# Altium schematic symbol library Connector-RJ.SchLib: 40 symbols
Pins are listed as number, name and electrical type; pins without a type are passive.

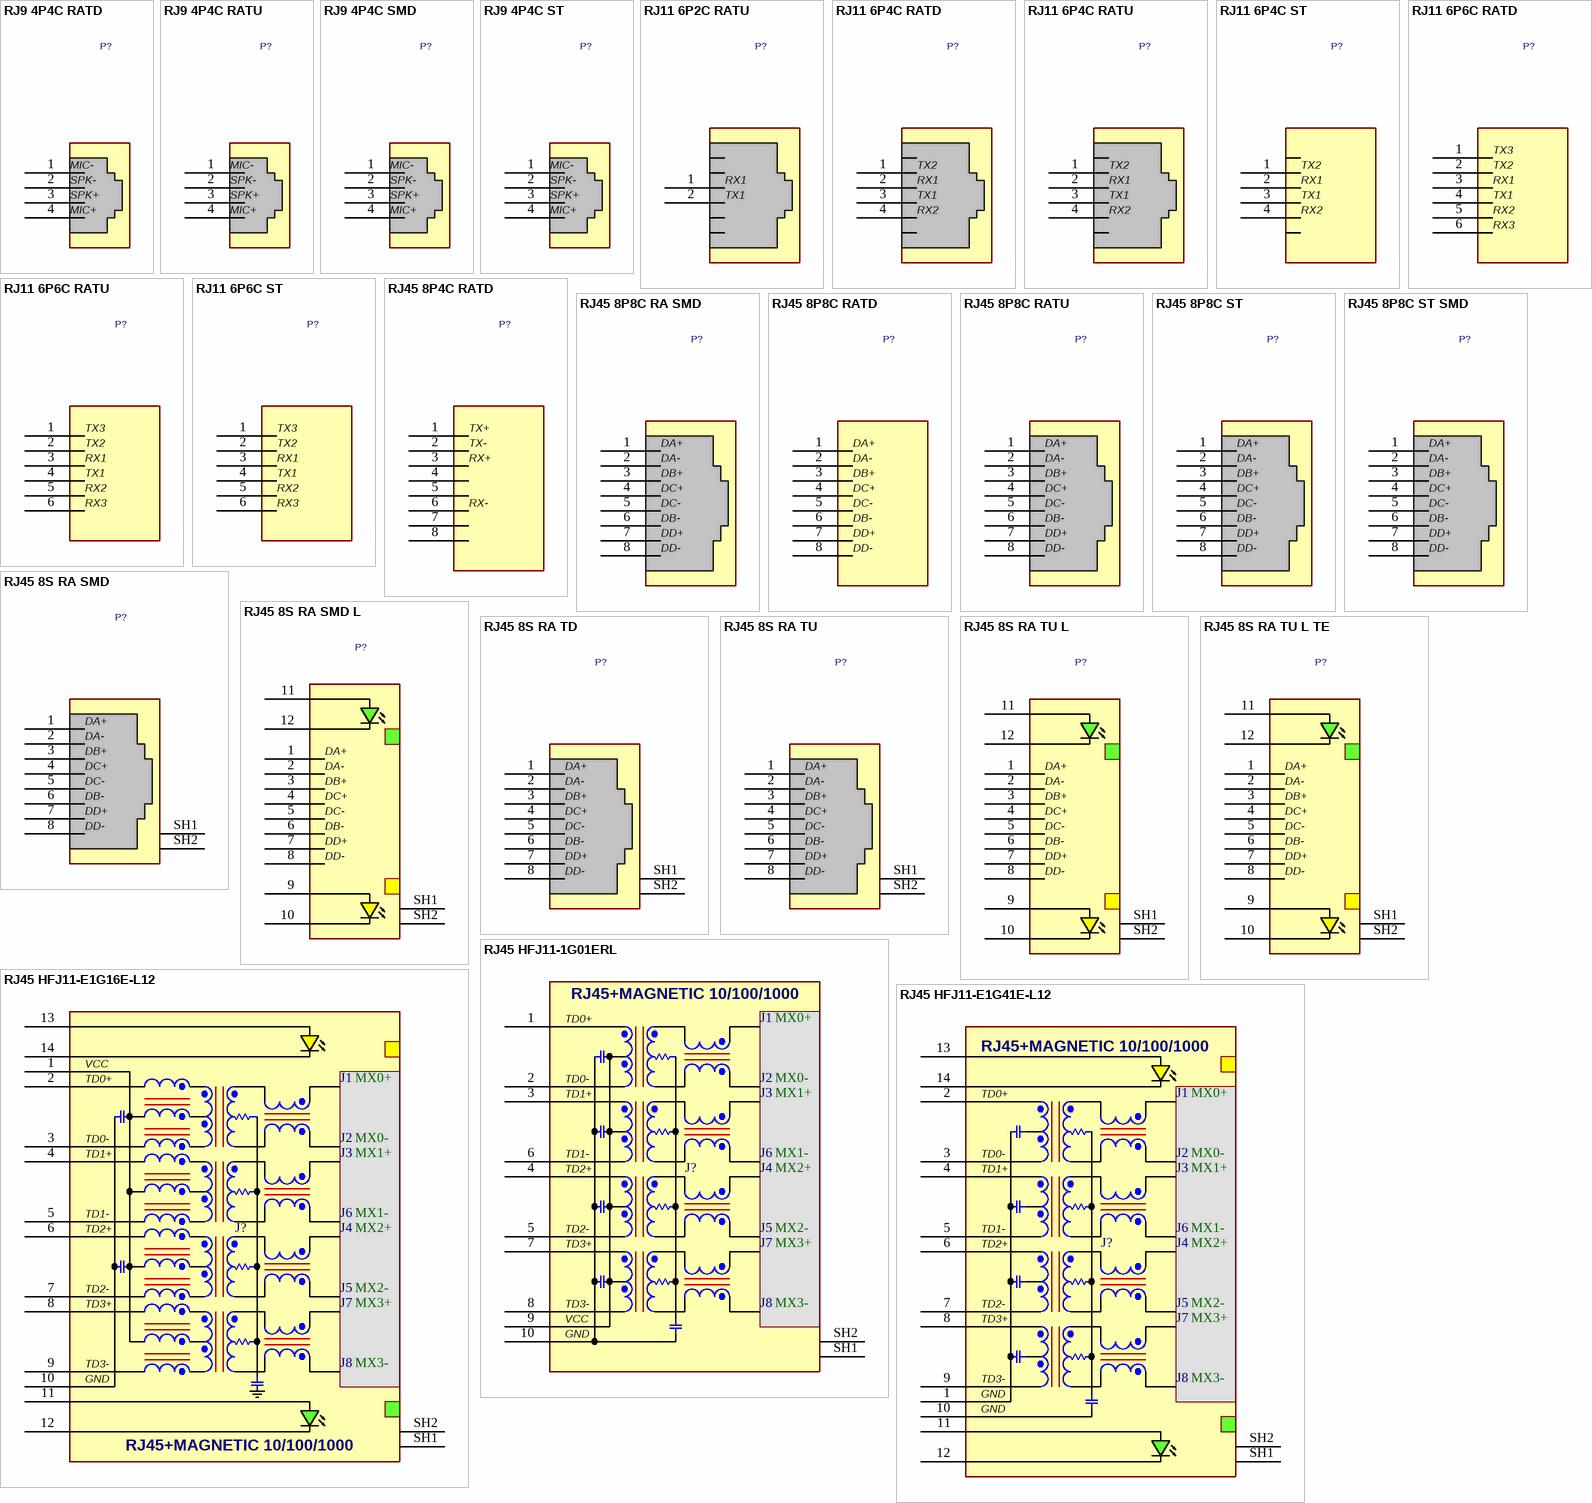
[diagram p0: symbols RJ9 4P4C RATD to RJ45 HFJ11-E1G41E-L12]

## RJ9 4P4C RATD
designator P?
RJ9, RJ11, 4P4C, RightAngle, TabDown; DatasheetVersion: 2022
footprint RJ11_4P4C_RA_TD (RJ11 4P4C, RightAngle, TabDown)
pins: 1 MIC-, 2 SPK-, 3 SPK+, 4 MIC+

## RJ9 4P4C RATU
designator P?
RJ9, RJ11, 4P4C, RightAngle, Tab Up,; DatasheetVersion: 2022
footprint RJ11_4P4C_RA_TU (RJ11 4P4C, RightAngle, TabUp)
pins: 1 MIC-, 2 SPK-, 3 SPK+, 4 MIC+

## RJ9 4P4C SMD
designator P?
RJ9, RJ11, 4P4C, RightAngle, Tab Up,; DatasheetVersion: 2022
footprint RJ11_4P4C_SMD (RJ11 4P4C, Tab Up, Straight, Top Entry_4P4C T&R with Mylar for Pick & Place)
pins: 1 MIC-, 2 SPK-, 3 SPK+, 4 MIC+

## RJ9 4P4C ST
designator P?
RJ9, RJ11, 4P4C, Straight; DatasheetVersion: 2022
footprint RJ11_4P4C_ST (RJ11 4P4C, Straight, WURTH 615004144021)
pins: 1 MIC-, 2 SPK-, 3 SPK+, 4 MIC+

## RJ11 6P2C RATU
designator P?
RJ11, 6P2C, RightAngle, Tab Up; DatasheetVersion: 2022
footprint RJ11_6P2C_RA_TU (RJ11, 6P2C, RightAngle TabUp, WURTH 615002138421)
pins: 1 RX1, 2 TX1

## RJ11 6P4C RATD
designator P?
RJ11, RJ14, 6P4C, RightAngle, TabDown; DatasheetVersion: 2022
footprint RJ11_6P4C_RA_TD (RJ11 6P4C, RightAngle, TabDown, WURTH 615004141121)
pins: 1 TX2, 2 RX1, 3 TX1, 4 TX3
text: RX2

## RJ11 6P4C RATU
designator P?
RJ11, RJ14, 6P4C, RightAngle, Tab Up; DatasheetVersion: 2022
footprint RJ11_6P4C_RA_TU (RJ11, 6P4C, RightAngle TabUp, WURTH 615004138421)
pins: 1 TX2, 2 RX1, 3 TX1, 4 TX3
text: RX2

## RJ11 6P4C ST
designator P?
RJ11, RJ14, 6P4C, Straight, TOP Entry; DatasheetVersion: 2022
footprint RJ11_6P4C_ST (RJ11, 6P4C, Straight, WURTH 615004144121)
pins: 1 TX2, 2 RX1, 3 TX1, 4 TX3
text: RX2

## RJ11 6P6C RATD
designator P?
RJ11, RJ25, 6P6C, RightAngle, TabDown; DatasheetVersion: 2022
footprint RJ11_6P6C_RA_TD (RJ11 6P6C, RightAngle, TabDown, WURTH 615004141121)
pins: 1 TX3, 2 TX2, 3 RX1, 4 TX1, 5 RX2, 6 RX3

## RJ11 6P6C RATU
designator P?
RJ11, RJ25, 6P6C, RightAngle, Tab Up; DatasheetVersion: 2022
footprint RJ11_6P6C_RA_TU (RJ11, 6P6C, RightAngle TabUp, WURTH 615006138421)
pins: 1 TX3, 2 TX2, 3 RX1, 4 TX1, 5 RX2, 6 RX3

## RJ11 6P6C ST
designator P?
RJ11, RJ25, 6P6C, Straight, TOP Entry; DatasheetVersion: 2022
footprint RJ11_6P6C_ST (RJ11, 6P6C, Straight, WURTH 615006144121)
pins: 1 TX3, 2 TX2, 3 RX1, 4 TX1, 5 RX2, 6 RX3

## RJ45 8P4C RATD
designator P?
RJ45, 8P4C, RightAngle, Tab Down; DatasheetVersion: 2022
footprint RJ45_8_RA_TD (RJ45 8P8C, RightAngle, TabDown, WURTH 615008137121)
pins: 1 TX+, 2 TX-, 3 RX+, 4 NC, 5 NC, 6 RX-, 7 NC, 8 NC

## RJ45 8P8C RA SMD
designator P?
RJ45, 8P8C, RightAngle, Tab Down SMD; DatasheetVersion: 2022
footprint RJ45_8_RA_SMD (RJ45 8P8C, RightAngle, TabDown SMD, WURTH 634008137221)
pins: 1 DA+, 2 DA-, 3 DB+, 4 DC+, 5 DC-, 6 DB-, 7 DD+, 8 DD-

## RJ45 8P8C RATD
designator P?
RJ45, 8P8C, RightAngle, Tab Down; DatasheetVersion: 2022
footprint RJ45_8_RA_TD (RJ45 8P8C, RightAngle, TabDown, WURTH 615008137121)
pins: 1 DA+, 2 DA-, 3 DB+, 4 DC+, 5 DC-, 6 DB-, 7 DD+, 8 DD-

## RJ45 8P8C RATU
designator P?
RJ45, 8P8C, RightAngle, TabUp; DatasheetVersion: 2022
footprint RJ45_8_RA_TU (RJ45 8P8C, RightAngle, TabUp, WURTH 615008148521)
pins: 1 DA+, 2 DA-, 3 DB+, 4 DC+, 5 DC-, 6 DB-, 7 DD+, 8 DD-

## RJ45 8P8C ST
designator P?
RJ45, 8P8C, Straight, TOP Entry; DatasheetVersion: 2022
footprint RJ45_8_ST (RJ45 8P8C, Straight, WURTH  615008138021)
pins: 1 DA+, 2 DA-, 3 DB+, 4 DC+, 5 DC-, 6 DB-, 7 DD+, 8 DD-

## RJ45 8P8C ST SMD
designator P?
RJ45, 8P8C, Straight, SMD; DatasheetVersion: 2022
footprint RJ45_8_ST_SMD (RJ45 8P8C, Straight SMD, WURTH 634008138121)
pins: 1 DA+, 2 DA-, 3 DB+, 4 DC+, 5 DC-, 6 DB-, 7 DD+, 8 DD-

## RJ45 8S RA SMD
designator P?
RJ45, 8P, SHIELDED, RightAngle, TabUp, SMDEMI panel ground; DatasheetVersion: 2022
footprint RJ45_8S_RA_SMD (RJ45, 8P8C, RightAngle, TabUp, SMD, WURTH 634008149721)
pins: 1 DA+, 2 DA-, 3 DB+, 4 DC+, 5 DC-, 6 DB-, 7 DD+, 8 DD-, SH1, SH2

## RJ45 8S RA SMD L
designator P?
RJ45, 8P, SHIELDED, RightAngle, TabUp, SMDEMI panel ground; DatasheetVersion: 2022
footprint RJ45_8S_RA_SMD_L (RJ45, 8P+G/Y-LED, RightAngle, TabUp, SMD, WURTH 634008137521)
pins: 1 DA+, 2 DA-, 3 DB+, 4 DC+, 5 DC-, 6 DB-, 7 DD+, 8 DD-, 9 YLED+, 10 YLED-, 11 GLED+, 12 GLED-, SH1, SH2

## RJ45 8S RA TD
designator P?
RJ45, 8P, SHIELDED, RightAngle, TabDown; DatasheetVersion: 2022
footprint RJ45_8S_RA_TD (RJ45, 8P, SHIELDED, RightAngle, TabDown, WURTH 615008142621)
pins: 1 DA+, 2 DA-, 3 DB+, 4 DC+, 5 DC-, 6 DB-, 7 DD+, 8 DD-, SH1, SH2

## RJ45 8S RA TU
designator P?
RJ45, 8P, SHIELDED, RightAngle, TabUP; DatasheetVersion: 2022
footprint RJ45_8S_RA_TU (RJ45, 8P, SHIELDED, RightAngle, TabUP, WURTH 615008140621)
pins: 1 DA+, 2 DA-, 3 DB+, 4 DC+, 5 DC-, 6 DB-, 7 DD+, 8 DD-, SH1, SH2

## RJ45 8S RA TU L
designator P?
RJ45, 8P+LED, SHIELDED, RightAngle, TabUP; DatasheetVersion: 2022
footprint RJ45_8S_RA_TU_L (RJ45, 8P+LED, SHIELDED, RightAngle, TabUP, WURTH 615008137421)
pins: 1 DA+, 2 DA-, 3 DB+, 4 DC+, 5 DC-, 6 DB-, 7 DD+, 8 DD-, 9 YLED+, 10 YLED-, 11 GLED+, 12 GLED-, SH1, SH2

## RJ45 8S RA TU L TE
designator P?
RJ45, 8P+LED, SHIELDED, RightAngle, TabUP; DatasheetVersion: 2022
footprint RJ45_8S_RA_TU_L (RJ45, 8P+LED, SHIELDED, RightAngle, TabUP, WURTH 615008137421)
pins: 1 DA+, 2 DA-, 3 DB+, 4 DC+, 5 DC-, 6 DB-, 7 DD+, 8 DD-, 9 YLED+, 10 YLED-, 11 GLED+, 12 GLED-, SH1, SH2

## RJ45 HFJ11-1G01ERL
designator J?
RJ45, 10/100/1000, with Magnetic; DatasheetVersion: 2022
footprint RJ45_10M_HFJ11_1G (RJ45_HFJ11_1G01E (HALO Ethernet Gigabit FASTJACK), Down Tab)
pins: 1 TD0+, 2 TD0-, 3 TD1+, 4 TD2+, 5 TD2-, 6 TD1-, 7 TD3+, 8 TD3-, 9 VCC, 10 GND, SH1, SH2
text: RJ45+MAGNETIC 10/100/1000; J1; MX0+; J2; MX0-; J3; MX1+; J6; MX1-; J4; MX2+; J5; MX2-; J7; MX3+; J8; MX3-

## RJ45 HFJ11-E1G16E-L12
designator J?
RJ45, 10/100/1000, with Magnetic, G/Y LED; DatasheetVersion: 2022
footprint RJ45_10M_HFJ11_1G_L (RJ45_HFJ11 (HALO Ethernet Gigabit FASTJACK) WITH LED, Down Tab)
pins: 1 VCC, 2 TD0+, 3 TD0-, 4 TD1+, 5 TD1-, 6 TD2+, 7 TD2-, 8 TD3+, 9 TD3-, 10 CHSGND, 11 GLED+, 12 GLED-, 13 YLED+, 14 YLED-, SH1, SH2
text: J1; MX0+; J2; MX0-; J3; MX1+; J6; MX1-; J4; MX2+; J5; MX2-; J7; MX3+; J8; MX3-; GND; RJ45+MAGNETIC 10/100/1000

## RJ45 HFJ11-E1G41E-L12
designator J?
RJ45, 10/100/1000, with Magnetic, G/Y LED; DatasheetVersion: 2022
footprint RJ45_10M_HFJ11_1G_L (RJ45_HFJ11 (HALO Ethernet Gigabit FASTJACK) WITH LED, Down Tab)
pins: 1 GND, 2 TD0+, 3 TD0-, 4 TD1+, 5 TD1-, 6 TD2+, 7 TD2-, 8 TD3+, 9 TD3-, 10 CHSGND, 11 GLED+, 12 GLED-, 13 YLED+, 14 YLED-, SH1, SH2
text: RJ45+MAGNETIC 10/100/1000; J1; MX0+; J2; MX0-; J3; MX1+; J6; MX1-; J4; MX2+; J5; MX2-; J7; MX3+; J8; MX3-

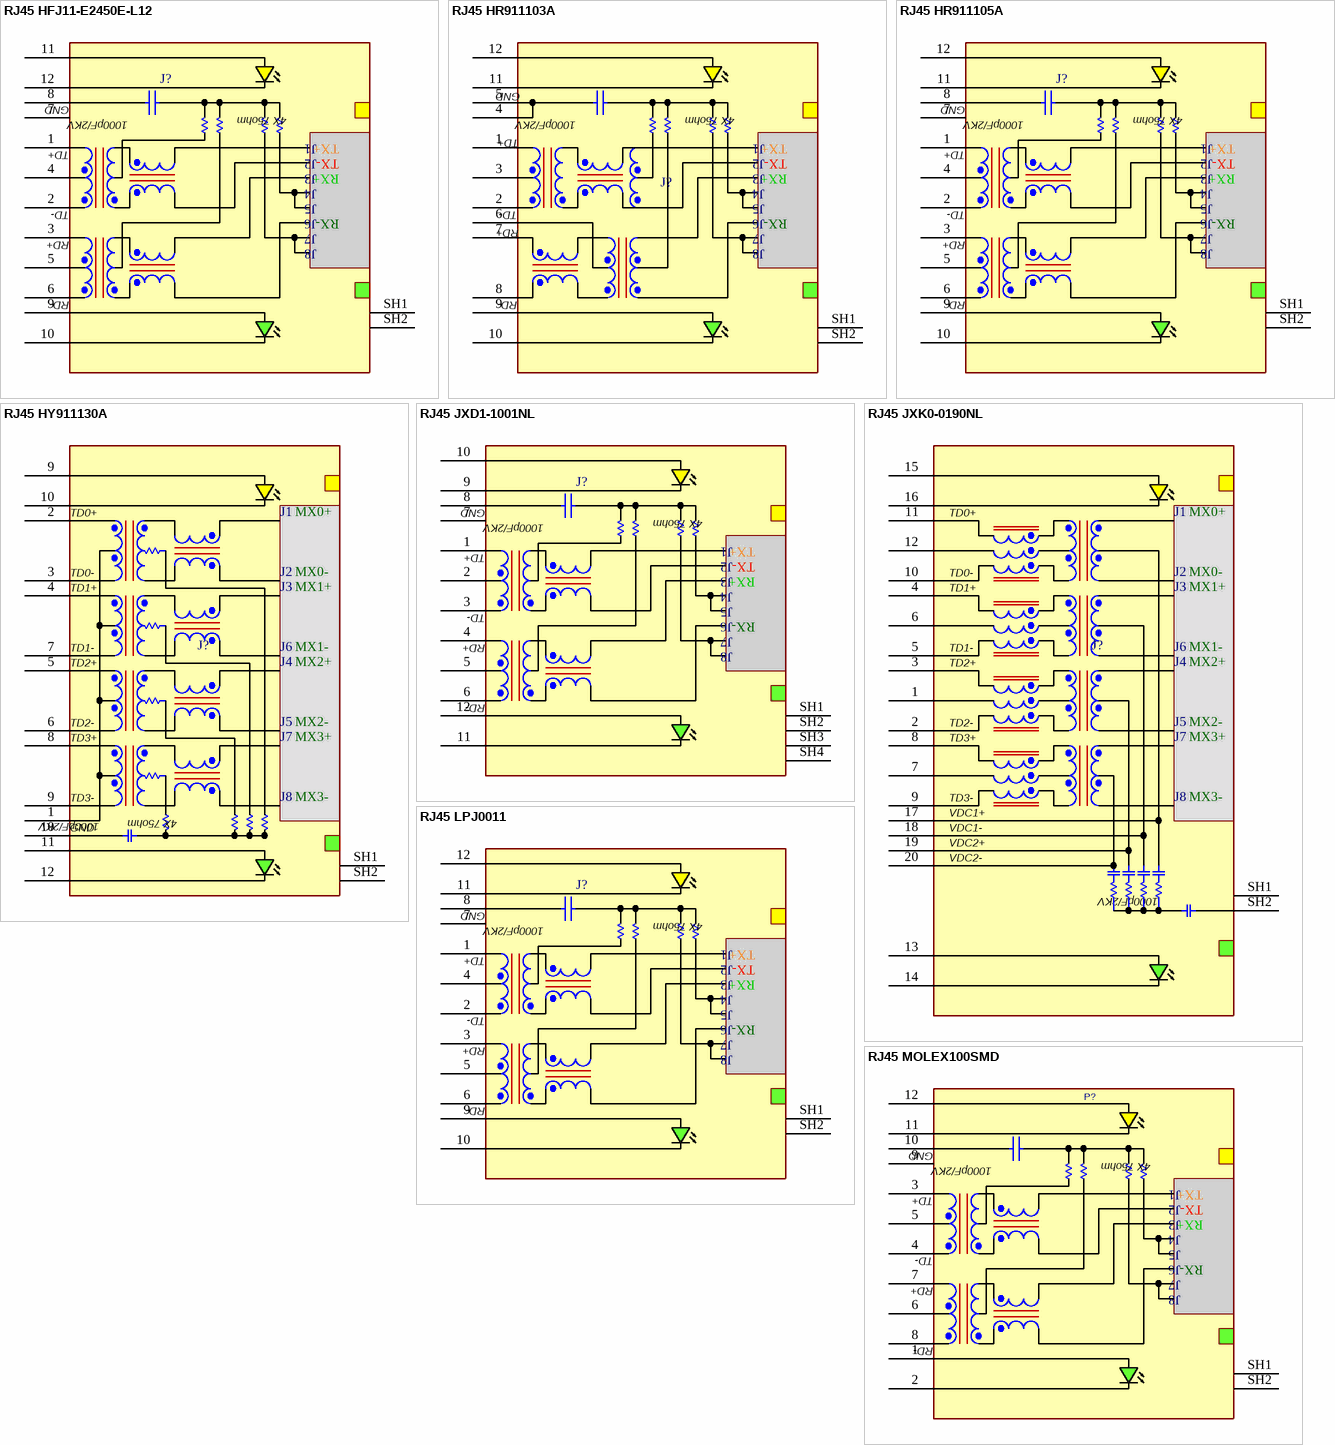
[diagram p1: symbols RJ45 HFJ11-E2450E-L12 to RJ45 MOLEX100SMD]

## RJ45 HFJ11-E2450E-L12
designator J?
RJ45, 10/100BASE, G/Y LED; DatasheetVersion: 2022
footprint RJ45_8M_RA_TD_LI (Ethernet FASTJACK MAGJACK with LED INLINE)
pins: 1 TD+, 2 TD-, 3 RD+, 4 TCT, 5 RCT, 6 RD-, 7 NC, 8 CHSGND, 9 GLED+, 10 GLED-, 11 YLED+, 12 YLED-, SH1, SH2
text: GND; 4X 75ohm; 1000pF/2KV; J1; TX+; J2; TX-; J3; RX+; J4; J5; J6; RX-; J7; J8

## RJ45 HR911103A
designator J?
RJ45, 10/100BASE, G/Y LED; DatasheetVersion: 2022
footprint RJ45_8M_HR911103A (RJ45, 10/100BASE, HR911103A WITH G/Y LED)
pins: 1 TD+, 2 TD-, 3 TCT, 4, 5 CHSGND, 6 RCT, 7 RD+, 8 RD-, 9 GLED+, 10 GLED-, 11 YLED-, 12 YLED+, SH1, SH2
text: GND; 4X 75ohm; 1000pF/2KV; J1; TX+; J2; TX-; J3; RX+; J4; J5; J6; RX-; J7; J8

## RJ45 HR911105A
designator J?
RJ45, 10/100BASE, G/Y LED; DatasheetVersion: 2022
footprint RJ45_8M_HR911105A (RJ45, 10/100BASE, HR911105A WITH G/Y LED)
pins: 1 TD+, 2 TD-, 3 RD+, 4 TCT, 5 RCT, 6 RD-, 7 NC, 8 CHSGND, 9 GLED+, 10 GLED-, 11 YLED-, 12 YLED+, SH1, SH2
text: GND; 4X 75ohm; 1000pF/2KV; J1; TX+; J2; TX-; J3; RX+; J4; J5; J6; RX-; J7; J8

## RJ45 HY911130A
designator J?
RJ45, 100/1000BASE, G/Y LED; DatasheetVersion: 2022
footprint RJ45_10M_HR911130A (RJ45, 1000BASE with Magnet, HR911130A WITH G/Y LED, Down Tab)
pins: 1 P1, 2 TD0+, 3 TD0-, 4 TD1+, 5 TD2+, 6 TD2-, 7 TD1-, 8 TD3+, 9 YLED+, 9 TD3-, 10 YLED-, 10 GND, 11 GLED+, 12 GLED-, SH1, SH2
text: J1; MX0+; J2; MX0-; J3; MX1+; J6; MX1-; J4; MX2+; J5; MX2-; J7; MX3+; J8; MX3-; 4X 75ohm; 1000pF/2KV

## RJ45 JXD1-1001NL
designator J?
RJ45, 10/100BASE, G/Y LED; DatasheetVersion: 2022
footprint RJ45_8M_RA_JXD1 (Ethernet 10/100 JXD1-1001NL)
pins: 1 TD+, 2 TCT, 3 TD-, 4 RD+, 5 RCT, 6 RD-, 7 NC, 8 CHSGND, 9 YLED-, 10 YLED+, 11 GLED-, 12 GLED+, SH1, SH2, SH3, SH4
text: GND; 4X 75ohm; 1000pF/2KV; J1; TX+; J2; TX-; J3; RX+; J4; J5; J6; RX-; J7; J8

## RJ45 JXK0-0190NL
designator J?
RJ45, 1000BASE, G/Y LED + POE; DatasheetVersion: 2022
footprint RJ45_20M_JXK0_0190 (RJ45, 1000Base, JXK0-0190NL Pulse, Up Tab)
pins: 1 MDCT3, 2 MD3-, 3 MD3+, 4 MD2+, 5 MD2-, 6 MDCT2, 7 MDCT4, 8 MD4+, 9 MD4-, 10 MD1-, 11 MD1+, 12 MDCT1, 13 GLEDA, 14 GLEDK, 15 YLEDA, 16 YLEDK, 17 VC1+, 18 VC1-, 19 VC2+, 20 VC2-, SH1, SH2
text: TD0+; J1; MX0+; TD0-; J2; MX0-; TD1+; J3; MX1+; TD1-; J6; MX1-; TD2+; J4; MX2+; TD2-; J5; MX2-; TD3+; J7; MX3+; TD3-; J8; MX3-; VDC1+; VDC1-; VDC2+; VDC2-; 1000pF/2KV

## RJ45 LPJ0011
designator J?
RJ45, 10/100BASE, G/Y LED; DatasheetVersion: 2022
footprint RJ45_8M_HR911105A (RJ45, 10/100BASE, HR911105A WITH G/Y LED)
pins: 1 TD+, 2 TD-, 3 RD+, 4 TCT, 5 RCT, 6 RD-, 7 NC, 8 CHSGND, 9 GLED+, 10 GLED-, 11 YLED-, 12 YLED+, SH1, SH2
text: GND; 4X 75ohm; 1000pF/2KV; J1; TX+; J2; TX-; J3; RX+; J4; J5; J6; RX-; J7; J8

## RJ45 MOLEX100SMD
designator P?
RJ45, 10/100BASE, G/Y LED, SMT; DatasheetVersion: 2022
footprint RJ45_8M_100M_SMD (RJ45, 10/100BASE, MOLEX SMD WITH G/Y LED)
pins: 1 GLED+, 2 GLED-, 3 TD+, 4 TD-, 5 TCT, 6 RCT, 7 RD+, 8 RD-, 9 NC, 10 CHSGND, 11 YLED-, 12 YLED+, SH1, SH2
text: GND; 4X 75ohm; 1000pF/2KV; J1; TX+; J2; TX-; J3; RX+; J4; J5; J6; RX-; J7; J8

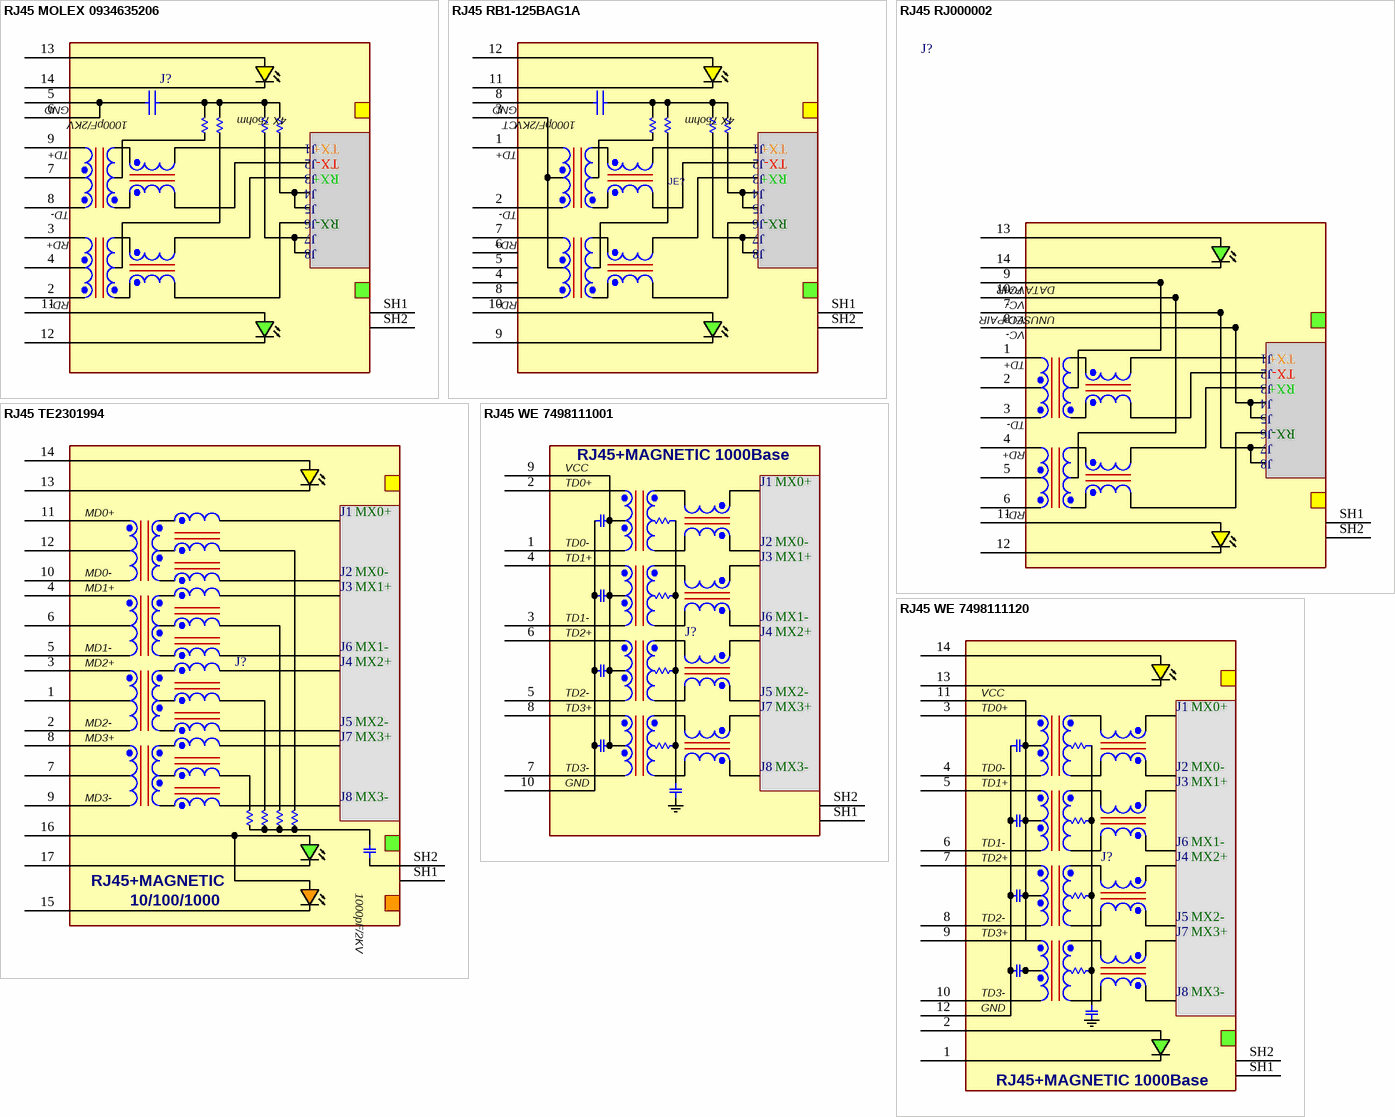
[diagram p2: symbols RJ45 MOLEX 0934635206 to RJ45 WE 7498111120]

## RJ45 MOLEX 0934635206
designator J?
RJ45, 10/100BASE, G/Y LED, UpTab; DatasheetVersion: 2022
footprint RJ45_8M_0934635206 (RJ45, 10/100BASE, Up Tab, 0934635206 MOLEX)
pins: 2 RD-, 3 RD+, 4 RCT, 5 CHSGND, 6 GND, 7 TCT, 8 TD-, 9 TD+, 11 GLED+, 12 GLED-, 13 YLED+, 14 YLED-, SH1, SH2
text: 4X 75ohm; 1000pF/2KV; J1; TX+; J2; TX-; J3; RX+; J4; J5; J6; RX-; J7; J8

## RJ45 RB1-125BAG1A
designator JE?
RJ45, 10/100BASE, G/Y LED; DatasheetVersion: 2022
footprint RJ45_8M_LS (HALO Ethernet FASTJACK with LED STAGGERED, RB1-125BAG1A)
pins: 1 TD+, 2 TD-, 3 CT, 4, 5, 6, 7 RD+, 8 RD-, 8 CHSGND, 9 GLED-, 10 GLED+, 11 YLED-, 12 YLED+, SH1, SH2
text: GND; 4X 75ohm; 1000pF/2KV; J1; TX+; J2; TX-; J3; RX+; J4; J5; J6; RX-; J7; J8

## RJ45 RJ000002
designator J?
RJ45, 10/100BASE, G/Y LED; DatasheetVersion: 2022
footprint RJ45_10M_RJ000002
pins: 1 TD+, 2 TCT, 3 TD-, 4 RD+, 5 RCT, 6 RD-, 7 VCU+, 8 VCU-, 9 VCD+, 10 VCD-, 11 YLED+, 12 YLED-, 13 GLED+, 14 GLED-, SH1, SH2
text: VC+; DATA PAIR; VC-; UNUSED PAIR; J1; TX+; J2; TX-; J3; RX+; J4; J5; J6; RX-; J7; J8

## RJ45 TE2301994
designator J?
RJ45, 10/100/1000, with Magnetic, G/Y LED; DatasheetVersion: 2022
footprint RJ45_12M_TE2301994 (RJ45, 1000Base, Up Tab,)
pins: 1 MDCT2, 2 MD2-, 3 MD2+, 4 MD1+, 5 MD1-, 6 MDCT1, 7 MDCT3, 8 MD3+, 9 MD3-, 10 MD0-, 11 MD0+, 12 MDCT0, 13 YLED-, 14 YLED+, 15 OLED-, 16 GLED+, 17 GLED-, SH1, SH2
text: J1; MX0+; J2; MX0-; J3; MX1+; J6; MX1-; J4; MX2+; J5; MX2-; J7; MX3+; J8; MX3-; RJ45+MAGNETIC; 1000pF/2KV; 10/100/1000

## RJ45 WE 7498111001
designator J?
RJ45, 1000Base, with Magnetic; DatasheetVersion: 2022
footprint RJ45_10M_WE7498111001 (LAN Transformer, 1000Base, body 21.6x15.88mm, Up Tab)
pins: 1 TD0-, 2 TD0+, 3 TD1-, 4 TD1+, 5 TD2-, 6 TD2+, 7 TD3-, 8 TD3+, 9 VCC, 10 CHSGND, SH1, SH2
text: RJ45+MAGNETIC 1000Base; J1; MX0+; J2; MX0-; J3; MX1+; J6; MX1-; J4; MX2+; J5; MX2-; J7; MX3+; J8; MX3-; GND

## RJ45 WE 7498111120
designator J?
RJ45, 1000Base, with Magnetic + LED G/Y; DatasheetVersion: 2022
footprint RJ45_10M_WE7498111120 (LAN Transformer, 1000Base, body 21.84x15.65mm, Up Tab)
pins: 1 GLED-, 2 GLED+, 3 TD0+, 4 TD0-, 5 TD1+, 6 TD1-, 7 TD2+, 8 TD2-, 9 TD3+, 10 TD3-, 11 VCC, 12 CHSGND, 13 YLED-, 14 YLED+, SH1, SH2
text: J1; MX0+; J2; MX0-; J3; MX1+; J6; MX1-; J4; MX2+; J5; MX2-; J7; MX3+; J8; MX3-; GND; RJ45+MAGNETIC 1000Base